# Altium footprint library IC_misc.PcbLib: 46 footprints (part 3 of 3)
Each footprint in its own frame and in the unit in brackets; x right, y up, seen from the top. Pads: shape width x height; smd on the part's side, far side on the other; paste and mask are expansions set on the pad; w line width, h text height; cw(c..) or ccw(c..) is an arc to the next point about the centre after c.
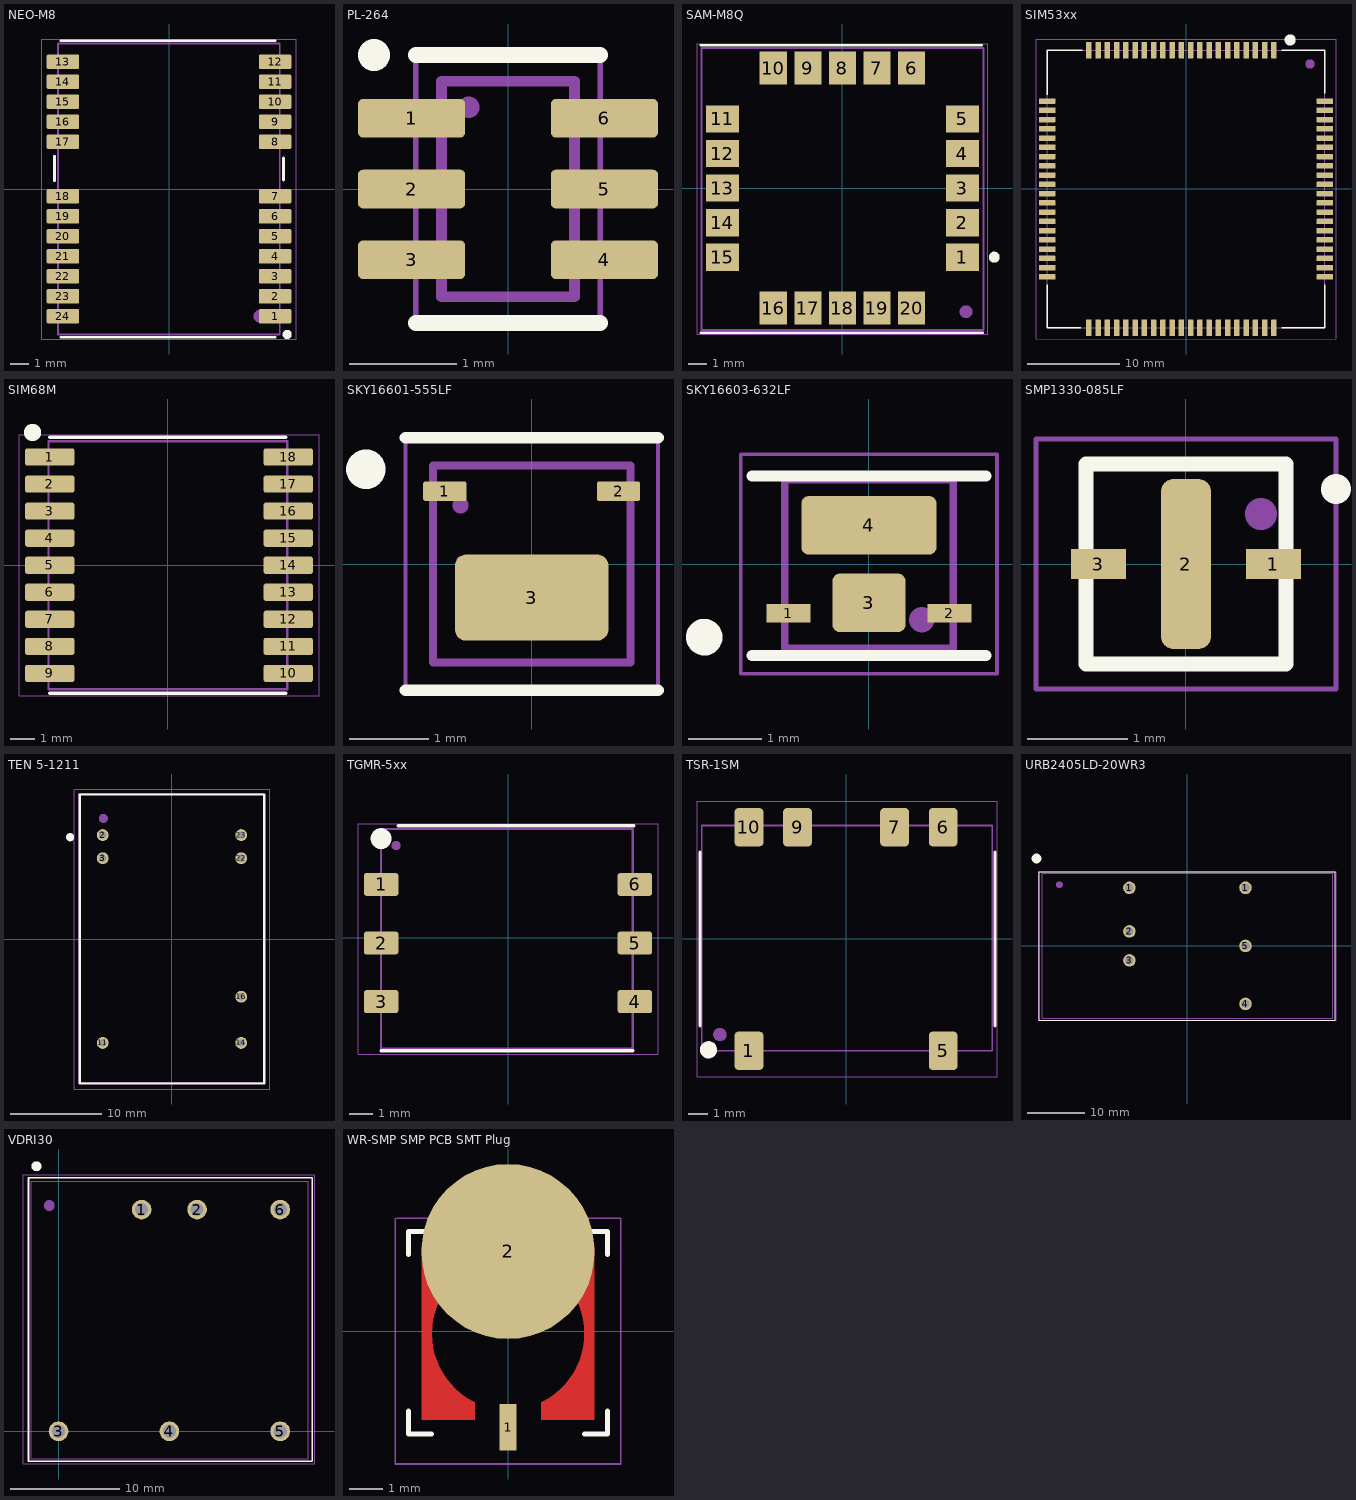
[diagram p2: the footprints below, top view; thin cyan lines are the x and y axes]

## NEO-M8 [mm] "u-blox NEO GNSS module"
pads (24):
  rrect25% 1.8x0.8 smd: 1(5.842,-7) 2(5.842,-5.9) 3(5.842,-4.8) 4(5.842,-3.7) 5(5.842,-2.6) 6(5.842,-1.5) 7(5.842,-0.4) 8(5.842,2.6) 9(5.842,3.7) 10(5.842,4.8) 11(5.842,5.9) 12(5.842,7) 13(-5.842,7) 14(-5.842,5.9) 15(-5.842,4.8) 16(-5.842,3.7) 17(-5.842,2.6) 18(-5.842,-0.4) 19(-5.842,-1.5) 20(-5.842,-2.6) 21(-5.842,-3.7) 22(-5.842,-4.8) 23(-5.842,-5.9) 24(-5.842,-7)
Top Overlay:
  circle w0.3: c6.5,-8 r0.1
  lines w0.15: -6.3,0.45 -6.3,1.8 ; -5.95,-8.15 5.85,-8.15 ; -5.95,8.15 5.85,8.15 ; 6.3,0.5 6.3,1.7
Top Assembly:
  circle w0.5: c5,-7 r0.1
  lines w0.1: -6.104,-8 6.096,-8 6.096,8 -6.104,8 -6.104,-8
  text ".Designator" at -4.998,-0.333 h1
Top Courtyard:
  lines w0.05: -7,-8.25 -7,8.25 7,8.25 7,-8.25 -7,-8.25
3D body "NEO (STEP-AP214)_B.STEP": height 2.28, standoff -0.05, extent -6.104,-8 6.096,8

## PL-264 [mm]
pads (6):
  rrect25% 1x0.36 smd: 1(-0.9,0.66) 2(-0.9,0) 3(-0.9,-0.66) 4(0.9,-0.66) 5(0.9,0) 6(0.9,0.66)
Top Overlay:
  circle w0.3: c-1.25,1.25 r0
  lines w0.15: -0.86,-1.25 0.86,-1.25 ; -0.86,1.25 0.86,1.25
Top Assembly:
  circle w0.2: c-0.366,0.764 r0.001
  lines w0.1: -0.62,-1.005 0.62,-1.005 0.62,1.005 -0.62,1.005 -0.62,-1.005
  text ".Designator" at -4.998,-0.333 h1
Top Courtyard:
  lines w0.05: -0.86,-1.25 -0.86,1.25 0.86,1.25 0.86,-1.25 -0.86,-1.25
3D body: height 0.84, standoff 0, extent -0.62,-1.005 0.62,1.005

## SAM-M8Q [mm]
pads (20):
  rect 1.8x1.5 smd: 1(6.6,-3.8) 2(6.6,-1.9) 3(6.6,0) 4(6.6,1.9) 5(6.6,3.8) 11(-6.6,3.8) 12(-6.6,1.9) 13(-6.6,0) 14(-6.6,-1.9) 15(-6.6,-3.8)
  rect 1.5x1.8 smd: 6(3.8,6.6) 7(1.9,6.6) 8(0,6.6) 9(-1.9,6.6) 10(-3.8,6.6) 16(-3.8,-6.6) 17(-1.9,-6.6) 18(0,-6.6) 19(1.9,-6.6) 20(3.8,-6.6)
Top Overlay:
  circle w0.3: c8.35,-3.8 r0.15
  lines w0.15: -7.8,-7.95 7.7,-7.95 ; -7.8,7.85 7.65,7.85
Top Assembly:
  circle w0.5: c6.8,-6.8 r0.1
  lines w0.1: -7.75,-7.8 -7.75,7.7 7.75,7.7 7.75,-7.8 -7.75,-7.8
  text ".Designator" at -4.998,-0.333 h1
Top Courtyard:
  lines w0.05: -8,-8.05 8,-8.05 8,7.95 -8,7.95 -8,-8.05
3D body "SAM_AP214.STEP": height 6.41, standoff 0.03, extent -7.75,-7.8 7.75,7.7

## SIM53xx [mm]
pads (82):
  rrect25% 0.6x1.8 smd: 1(9.5,15) 2(8.5,15) 3(7.5,15) 4(6.5,15) 5(5.5,15) 6(4.5,15) 7(3.5,15) 8(2.5,15) 9(1.5,15) 10(0.5,15) 11(-0.5,15) 12(-1.5,15) 13(-2.5,15) 14(-3.5,15) 15(-4.5,15) 16(-5.5,15) 17(-6.5,15) 18(-7.5,15) 19(-8.5,15) 20(-9.5,15) 41(-9.5,-15) 42(-8.5,-15) 43(-7.5,-15) 44(-6.5,-15) 45(-5.5,-15) 46(-4.5,-15) 47(-3.5,-15) 48(-2.5,-15) 49(-1.5,-15) 50(-0.5,-15) 51(0.5,-15) 52(1.5,-15) 53(2.5,-15) 54(3.5,-15) 55(4.5,-15) 56(5.5,-15) 57(6.5,-15) 58(7.5,-15) 59(8.5,-15) 60(9.5,-15) 81(-10.5,15) 82(-10.5,-15)
  rrect25% 1.8x0.6 smd: 21(-15,9.5) 22(-15,8.5) 23(-15,7.5) 24(-15,6.5) 25(-15,5.5) 26(-15,4.5) 27(-15,3.5) 28(-15,2.5) 29(-15,1.5) 30(-15,0.5) 31(-15,-0.5) 32(-15,-1.5) 33(-15,-2.5) 34(-15,-3.5) 35(-15,-4.5) 36(-15,-5.5) 37(-15,-6.5) 38(-15,-7.5) 39(-15,-8.5) 40(-15,-9.5) 61(15,-9.5) 62(15,-8.5) 63(15,-7.5) 64(15,-6.5) 65(15,-5.5) 66(15,-4.5) 67(15,-3.5) 68(15,-2.5) 69(15,-1.5) 70(15,-0.5) 71(15,0.5) 72(15,1.5) 73(15,2.5) 74(15,3.5) 75(15,4.5) 76(15,5.5) 77(15,6.5) 78(15,7.5) 79(15,8.5) 80(15,9.5)
Top Overlay:
  circle w1: c11.25,16.1 r0.1
  lines w0.15: -15,-10.35 -15,-15 -11.35,-15 ; -15,10.2 -15,15 -11.2,15 ; 10.35,-15 15,-15 15,-10.35 ; 10.35,15 15,15 15,10.35
Top Assembly:
  circle w0.8: c13.4,13.5 r0.1
  lines w0.1: -15,-15 15,-15 15,15 -15,15 -15,-15
  text ".Designator" at -4.998,-0.333 h1
Top Courtyard:
  lines w0.05: -16.2,-16.2 -16.2,16.2 16.2,16.2 16.2,-16.2 -16.2,-16.2
3D body "User Library-SIM5320E.step": height 2.9, standoff -0.04, extent -15,-15 15,15

## SIM68M [mm]
pads (18):
  rrect25% 2x0.7 smd: 1(-4.8,4.4) 2(-4.8,3.3) 3(-4.8,2.2) 4(-4.8,1.1) 5(-4.8,0) 6(-4.8,-1.1) 7(-4.8,-2.2) 8(-4.8,-3.3) 9(-4.8,-4.4) 10(4.9,-4.4) 11(4.9,-3.3) 12(4.9,-2.2) 13(4.9,-1.1) 14(4.9,0) 15(4.9,1.1) 16(4.9,2.2) 17(4.9,3.3) 18(4.9,4.4)
Top Overlay:
  circle w0.5: c-5.5,5.4 r0.1
  lines w0.15: -4.8,-5.2 4.8,-5.2 ; -4.8,5.2 4.8,5.2
Top Assembly:
  circle w0.2: c-4.15,4.35 r0.1
  lines w0.1: -4.85,-5.05 -4.85,5.05 4.85,5.05 4.85,-5.05 -4.85,-5.05
  text ".Designator" at -4.998,-0.333 h1
Top Courtyard:
  lines w0.05: -6.05,-5.3 -6.05,5.3 6.15,5.3 6.15,-5.3 -6.05,-5.3
3D body "User Library-SIM68M.step": height 2.56, standoff -0.01, extent -4.86,-5.05 4.86,5.05

## SKY16601-555LF [mm]
height 2.1
pads (3):
  rrect25% 0.55x0.25 smd: 1(-1.1,0.922) 2(1.1,0.922)
  rrect25% 1.942x1.092 smd: 3(0,-0.425)
Top Overlay:
  circle w0.3: c-2.1,1.2 r0.1
  lines w0.15: -1.6,-1.6 1.6,-1.6 ; -1.6,1.6 1.6,1.6
Top Assembly:
  lines w0.1: -1.25,-1.25 1.25,-1.25 1.25,1.25 -1.25,1.25 -1.25,-1.25
  lines w0.2: -0.901,0.737 ccw(c-1,0.75) -0.9,0.75
  text ".Designator" at -4.998,-0.333 h1
Top Courtyard:
  lines w0.05: -1.6,-1.6 -1.6,1.6 1.6,1.6 1.6,-1.6 -1.6,-1.6
3D body: height 0.75, standoff 0, extent -1.25,-1.25 1.25,1.25

## SKY16603-632LF [mm]
height 2.1
pads (4):
  rect 0.6x0.25 smd: 1(-1.1,-0.672) 2(1.1,-0.672)
  rrect25% 1x0.8 smd: 3(0,-0.532)
  rrect25% 1.85x0.8 smd: 4(0,0.528)
Top Overlay:
  circle w0.3: c-2.25,-1 r0.1
  lines w0.15: -1.6,-1.25 1.6,-1.25 ; -1.6,1.2 1.6,1.2
Top Assembly:
  lines w0.1: -1.15,-1.15 1.15,-1.15 1.15,1.15 -1.15,1.15 -1.15,-1.15
  lines w0.35: 0.724,-0.761 ccw(c0.724,-0.761) 0.724,-0.761
  text ".Designator" at -4.998,-0.333 h1
Top Courtyard:
  lines w0.05: -1.75,-1.5 -1.75,1.5 1.75,1.5 1.75,-1.5 -1.75,-1.5
3D body: height 0.6, standoff 0, extent -1.15,-1.15 1.15,1.15

## SMP1330-085LF [mm]
pads (3):
  rect 0.55x0.3 smd: 1(0.875,0) 3(-0.875,0)
  rrect50% 0.5x1.7 smd: 2(0,0)
Top Overlay:
  circle w0.3: c1.5,0.75 r0.001
  lines w0.15: -1,-1 1,-1 1,1 -1,1 -1,-1
Top Assembly:
  circle w0.3: c0.75,0.5 r0.01
  lines w0.1: -1,-1 1,-1 1,1 -1,1 -1,-1
  text ".Designator" at -4.998,-0.333 h1
Top Courtyard:
  lines w0.05: -1.5,-1.25 1.5,-1.25 1.5,1.25 -1.5,1.25 -1.5,-1.25
3D body: height 0.9, standoff 0, extent -1,-1 1,1

## TEN 5-1211 [mm]
height 0.165
pads (7):
  round 1.3 hole 0.8 unplated: 2(-7.62,11.43) 3(-7.62,8.89) 11(-7.62,-11.43) 14(7.62,-11.43) 16(7.62,-6.35) 22(7.62,8.89) 23(7.62,11.43)
Top Overlay:
  circle w0.5: c-11.2,11.2 r0.2
  lines w0.254: -10.15,-15.9 10.15,-15.9 10.15,15.9 -10.15,15.9 -10.15,-15.9
Top Assembly:
  circle w1: c-7.55,13.275 r0.001
  lines w0.1: -10.2,-15.75 10.1,-15.75 10.1,16.05 -10.2,16.05 -10.2,-15.75
  text ".Designator" at -4.998,-0.333 h1
Top Courtyard:
  lines w0.05: -10.75,-16.5 10.75,-16.5 10.75,16.5 -10.75,16.5 -10.75,-16.5
3D body "ten5_single_3d_drawing.stp": height 10.2, standoff -4.1, extent -10.175,-15.75 10.145,16

## TGMR-5xx [mm]
height 0.165
pads (7):
  rrect25% 1.5x1 smd: 1(-5.5,2.315) 2(-5.5,-0.225) 3(-5.5,-2.765) 4(5.5,-2.765) 5(5.5,-0.225) 6(5.5,2.315)
  round 0 smd paste-25.4 mask-25.4: 1(-5.4,2.765)
Top Overlay:
  circle w0.5: c-5.5,4.3 r0.2
  lines w0.15: -5.5,-4.9 5.4,-4.9 ; -4.75,4.85 5.45,4.85
Top Assembly:
  circle w0.2: c-4.85,4 r0.1
  lines w0.1: -5.5,4.7 -5.5,-4.8 5.4,-4.8 5.4,4.7 ; -5.5,4.715 5.4,4.715
  text ".Designator" at -4.998,-0.333 h1
Top Courtyard:
  lines w0.05: -6.5,-5.05 -6.5,4.95 6.5,4.95 6.5,-5.05 -6.5,-5.05
3D body: height 3.95, standoff 0, extent -5.5,-4.8 5.4,4.715

## TSR-1SM [mm] "POL switching regulator, SMD package"
height 7.6
pads (6):
  rrect25% 1.5x2 smd: 1(-5.08,-5.85) 5(5.08,-5.85) 6(5.08,5.85) 7(2.54,5.85) 9(-2.54,5.85) 10(-5.08,5.85)
Top Overlay:
  circle w0.5: c-7.2,-5.8 r0.2
  lines w0.15: -7.65,-4.55 -7.65,4.55 ; 7.8,-4.55 7.8,4.55
Top Assembly:
  circle w0.5: c-6.6,-5 r0.1
  lines w0.1: -7.55,-5.85 7.65,-5.85 7.65,5.95 -7.55,5.95 -7.55,-5.85
  text ".Designator" at -4.998,-0.333 h1
Top Courtyard:
  lines w0.05: -7.8,-7.2 -7.8,7.2 7.9,7.2 7.9,-7.2 -7.8,-7.2
3D body "tsr1sm.stp": height 7.56, standoff 0.01, extent -7.58,-5.87 7.66,5.95

## URB2405LD-20WR3 [mm]
height 1
pads (6):
  round 2.2 hole 1.5 unplated: 1(-10.16,10.16) 1(10.16,10.16) 2(-10.16,2.54) 3(-10.16,-2.54) 4(10.16,-10.16) 5(10.16,0)
Top Overlay:
  circle w1.5: c-26.4,15.3 r0.1
  lines w0.15: -25.9,-13 25.9,-13 25.9,13 -25.9,13 -25.9,-13
Top Assembly:
  circle w1: c-22.4,10.7 r0.1
  lines w0.1: -25.4,-12.7 25.4,-12.7 25.4,12.7 -25.4,12.7 -25.4,-12.7
  text ".Designator" at -9.997,-0.666 h2
Top Courtyard:
  lines w0.05: -26,-13 26,-13 26,13 -26,13 -26,-13
3D body: height 11.8, standoff 0, extent -25.4,-12.7 25.4,12.7

## VDRI30 [mm]
height 0.165
pads (6):
  round 1.8 hole 1.2: 1(7.62,20.32) 2(12.7,20.32) 3(0,0) 4(10.16,0) 5(20.32,0) 6(20.32,20.32)
Top Overlay:
  circle w0.5: c-2.025,24.3 r0.2
  lines w0.15: -2.75,-2.75 23.25,-2.75 23.25,23.25 -2.75,23.25 -2.75,-2.75
Top Assembly:
  circle w1: c-0.85,20.7 r0.001
  lines w0.1: -2.5,-2.5 22.9,-2.5 22.9,22.9 -2.5,22.9 -2.5,-2.5
  text ".Designator" at -4.998,-0.333 h1
Top Courtyard:
  lines w0.05: -3.25,-3 23.5,-3 23.5,23.5 -3.25,23.5 -3.25,-3
3D body "VDRI30.stp": height 10.2, standoff -6.9, extent -2.55,-2.45 22.85,22.95

## WR-SMP SMP PCB SMT Plug [mm] "60114102122403"
pads (2):
  rect 0.5x1.4 smd: 1(0,-2.9)
  shape10 5.2x5.27 smd: 2(0,2.4)
Top Layer:
  region: -2.597,-2.67 -2.597,2.6 2.603,2.6 2.603,-2.67 1.003,-2.67 1.003,-2.141 1.095,-2.095 1.272,-1.989 1.439,-1.867 1.594,-1.731 1.737,-1.582 1.865,-1.421 1.979,-1.248 2.076,-1.067 2.157,-0.877 2.221,-0.681 2.267,-0.479 2.294,-0.275 2.303,-0.069 2.294,0.137 2.266,0.342 2.22,0.543 2.156,0.739 2.075,0.929 1.977,1.11 1.864,1.282 1.735,1.444 1.592,1.593 1.437,1.728 1.27,1.849 1.093,1.955 0.907,2.045 0.714,2.117 0.515,2.172 0.312,2.209 0.107,2.227 -0.1,2.227 -0.305,2.209 -0.508,2.172 -0.707,2.117 -0.9,2.045 -1.086,1.955 -1.263,1.849 -1.43,1.728 -1.585,1.593 -1.728,1.444 -1.857,1.282 -1.97,1.11 -2.068,0.929 -2.149,0.739 -2.213,0.543 -2.259,0.342 -2.287,0.137 -2.297,-0.069 -2.287,-0.275 -2.26,-0.479 -2.214,-0.681 -2.15,-0.877 -2.069,-1.067 -1.972,-1.248 -1.858,-1.421 -1.73,-1.582 -1.587,-1.731 -1.432,-1.867 -1.265,-1.989 -1.088,-2.095 -0.997,-2.141 -0.997,-2.67
Top Overlay:
  lines w0.15: -3,-2.41 -3,-3.1 -2.31,-3.1 ; -3,2.31 -3,3 -2.31,3 ; 2.31,-3.1 3,-3.1 3,-2.41 ; 2.31,3 3,3 3,2.31
Top Solder:
  region: -2.6,2.6 2.6,2.6 2.6,-2.773 -2.6,-2.773
Top Assembly:
  text ".Designator" at -4.998,-0.333 h1
Top Courtyard:
  lines w0.05: -3.4,3.4 -3.4,-4 3.4,-4 3.4,3.4 -3.35,3.4
3D body "STEP_60114102122403 (rev1).stp": height 4.1, standoff 0, extent -2.5,-3.3 2.5,2.5